# Altium footprint library Generic-Footprint-Library.PcbLib: 47 footprints (part 2 of 3)
Each footprint in its own frame and in the unit in brackets; x right, y up, seen from the top. Pads: shape width x height; smd on the part's side, far side on the other; paste and mask are expansions set on the pad; w line width, h text height; cw(c..) or ccw(c..) is an arc to the next point about the centre after c.
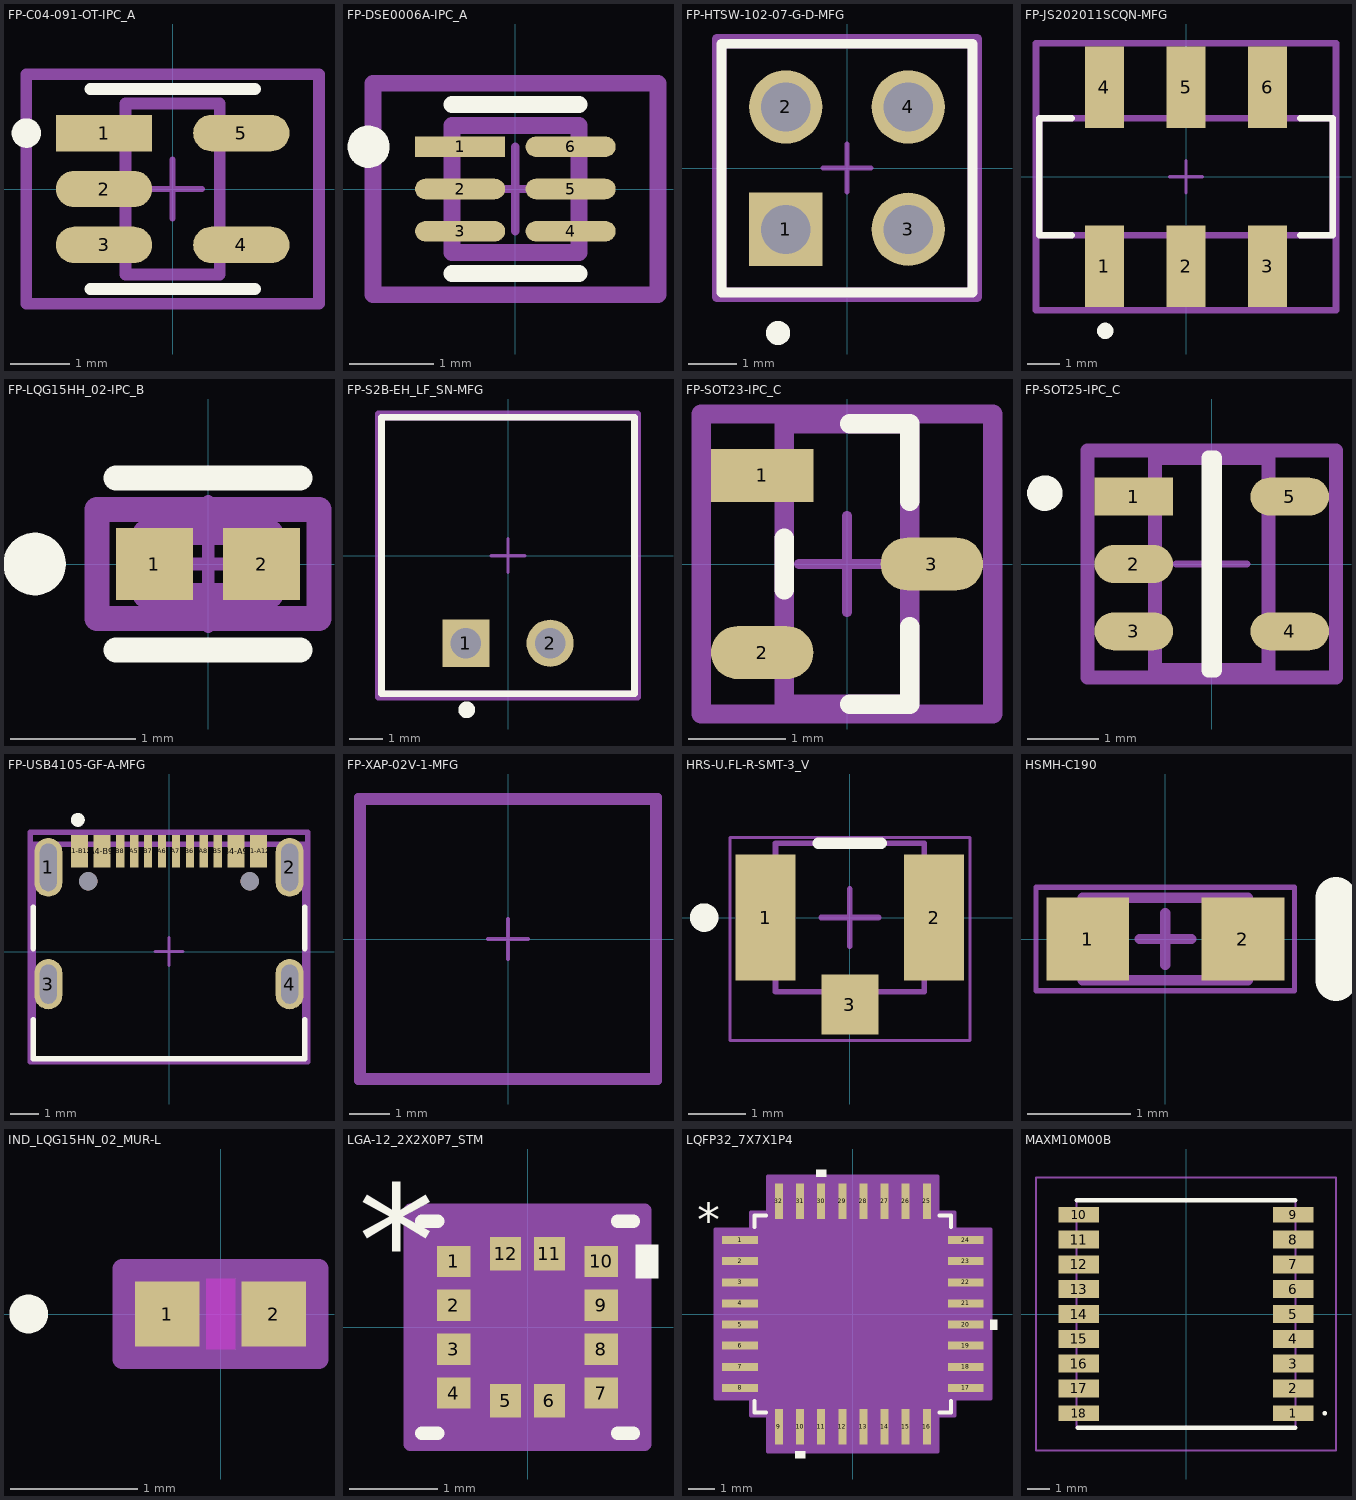
[diagram p1: the footprints below, top view; thin cyan lines are the x and y axes]

## FP-C04-091-OT-IPC_A [mil]
pads (5):
  rect 64.5x24.33 smd paste+0 mask+0: 1(-45.91,37.4)
  rrect100% 64.5x24.33 smd paste+0 mask+0: 2(-45.91,0) 3(-45.91,-37.4) 4(45.91,-37.4) 5(45.91,37.4)
Top Overlay:
  circle w9.84: c-97.85,37.4 r4.92
  lines w7.87: -55.12,-66.93 55.12,-66.93 ; -55.12,66.93 55.12,66.93
Top Assembly:
  lines w7.87: -97.85,-76.77 -97.85,76.77 97.85,76.77 97.85,-76.77 -97.85,-76.77
  text ".Designator" at 0,7.39 h39.37
Top 3D Body:
  lines w7.87: -31.5,-57.09 -31.5,57.09 31.5,57.09 31.5,-57.09 -31.5,-57.09
Top Courtyard:
  lines w7.87: -97.85,-76.77 -97.85,76.77 97.85,76.77 97.85,-76.77 -97.85,-76.77
Top Component Center:
  lines w3.94: -19.68,0 19.68,0 ; 0,-19.68 0,19.68

## FP-DSE0006A-IPC_A [mm]
pads (6):
  rect 1.065x0.242 smd paste+0 mask+0: 1(-0.654,0.5)
  rrect100% 1.065x0.242 smd paste+0 mask+0: 2(-0.654,0) 3(-0.654,-0.5) 4(0.654,-0.5) 5(0.654,0) 6(0.654,0.5)
Top Overlay:
  circle w0.25: c-1.736,0.5 r0.125
  lines w0.2: -0.75,-1 0.75,-1 ; -0.75,1 0.75,1
Top Assembly:
  lines w0.2: -1.686,-1.25 -1.686,1.25 1.686,1.25 1.686,-1.25 -1.686,-1.25
  text ".Designator" at 0,0.188 h1
Top 3D Body:
  lines w0.2: -0.75,-0.75 -0.75,0.75 0.75,0.75 0.75,-0.75 -0.75,-0.75
Top Courtyard:
  lines w0.2: -1.686,-1.25 -1.686,1.25 1.686,1.25 1.686,-1.25 -1.686,-1.25
Top Component Center:
  lines w0.1: -0.5,0 0.5,0 ; 0,-0.5 0,0.5
3D body "IC_Texas_Instruments_BQ29700DSET_eec.STEP": height 0.25, standoff 0, extent -1.686,-1.25 1.686,1.25

## FP-HTSW-102-07-G-D-MFG [mm]
pads (4):
  rect 1.52x1.52 hole 1.02 paste-2539.97 mask+0: 1(-1.27,-1.27)
  round 1.52 hole 1.02 paste-2539.97 mask+0: 2(-1.27,1.27) 3(1.27,-1.27) 4(1.27,1.27)
Top Overlay:
  circle w0.25: c-1.43,-3.42 r0.125
  lines w0.2: -2.603,-2.58 2.603,-2.58 2.603,2.58 -2.603,2.58 -2.603,-2.58
Top Assembly:
  lines w0.2: -2.703,-2.68 2.703,-2.68 2.703,2.68 -2.703,2.68 -2.703,-2.68
Top 3D Body:
  lines w0.2: -2.603,-2.58 2.603,-2.58 2.603,2.58 -2.603,2.58 -2.603,-2.58
Top Courtyard:
  lines w0.2: -2.703,-2.68 2.703,-2.68 2.703,2.68 -2.703,2.68 -2.703,-2.68
Top Component Center:
  lines w0.1: -0.5,0 0.5,0 ; 0,-0.5 0,0.5
3D body "Conn_Samtec_HTSW-102-07-G-D_eec.STEP": height 0.25, standoff 0, extent -2.703,-2.68 2.703,2.68

## FP-JS202011SCQN-MFG [mm]
pads (6):
  rect 1.2x2.5 smd paste+0 mask+0: 1(-2.5,-2.75) 2(0,-2.75) 3(2.5,-2.75) 4(-2.5,2.75) 5(0,2.75) 6(2.5,2.75)
Top Overlay:
  circle w0.25: c-2.476,-4.725 r0.125
  lines w0.2: -3.5,-1.8 -4.5,-1.8 -4.5,1.8 -3.5,1.8 ; 3.5,-1.8 4.5,-1.8 4.5,1.8 3.5,1.8
Top Assembly:
  lines w0.2: -4.6,-4.1 4.6,-4.1 4.6,4.1 -4.6,4.1 -4.6,-4.1
  text ".Designator" at 0,-0.001 h2
Top 3D Body:
  lines w0.2: -4.5,-1.8 4.5,-1.8 4.5,1.8 -4.5,1.8 -4.5,-1.8
Top Courtyard:
  lines w0.2: -4.6,-4.1 4.6,-4.1 4.6,4.1 -4.6,4.1 -4.6,-4.1
Top Component Center:
  lines w0.1: -0.5,0 0.5,0 ; 0,-0.5 0,0.5
3D body "Switch_C&K_Components_JS202011SCQN_eec.STEP": height 0.25, standoff 0, extent -4.6,-4.1 4.6,4.1

## FP-LQG15HH_02-IPC_B [mm]
pads (2):
  rect 0.615x0.572 smd paste+0 mask+0: 1(-0.429,0) 2(0.429,0)
Top Overlay:
  circle w0.25: c-1.386,0 r0.125
  lines w0.2: -0.736,-0.686 0.736,-0.686 ; -0.736,0.686 0.736,0.686
Top Assembly:
  lines w0.2: -0.886,-0.436 0.886,-0.436 0.886,0.436 -0.886,0.436 -0.886,-0.436
  text ".Designator" at 0,-0.001 h1
Top 3D Body:
  lines w0.2: -0.5,-0.25 0.5,-0.25 0.5,0.25 -0.5,0.25 -0.5,-0.25
Top Courtyard:
  lines w0.2: -0.886,-0.436 0.886,-0.436 0.886,0.436 -0.886,0.436 -0.886,-0.436
Top Component Center:
  lines w0.1: -0.5,0 0.5,0 ; 0,-0.5 0,0.5
3D body "Ind_Murata_LQG15HN39NJ02D_eec.STEP": height 0.25, standoff 0, extent -0.886,-0.436 0.886,0.436

## FP-S2B-EH_LF_SN-MFG [mm]
pads (2):
  rect 1.4x1.4 hole 0.9 paste-2539.97 mask+0: 1(-1.25,-2.6)
  round 1.4 hole 0.9 paste-2539.97 mask+0: 2(1.25,-2.6)
Top Overlay:
  circle w0.25: c-1.225,-4.575 r0.125
  lines w0.2: -3.75,-4.1 3.75,-4.1 3.75,4.1 -3.75,4.1 -3.75,-4.1
Top Assembly:
  lines w0.2: -3.85,-4.2 3.85,-4.2 3.85,4.2 -3.85,4.2 -3.85,-4.2
  text ".Designator" at 0,0.188 h1
Top 3D Body:
  lines w0.2: -3.75,-4.1 3.75,-4.1 3.75,4.1 -3.75,4.1 -3.75,-4.1
Top Courtyard:
  lines w0.2: -3.85,-4.2 3.85,-4.2 3.85,4.2 -3.85,4.2 -3.85,-4.2
Top Component Center:
  lines w0.1: -0.5,0 0.5,0 ; 0,-0.5 0,0.5
3D body "Conn_JST_S2B-EH_LF_SN_eec.STEP": height 0.25, standoff 0, extent -3.85,-4.2 3.85,4.2

## FP-SOT23-IPC_C [mm]
pads (3):
  rect 1.059x0.547 smd paste+0 mask+0: 1(-0.877,0.915)
  rrect100% 1.059x0.547 smd paste+0 mask+0: 2(-0.877,-0.915) 3(0.877,0)
Top Overlay:
  lines w0.2: -0.65,-0.267 -0.65,0.267 ; 0.028,-1.45 0.65,-1.45 0.65,-0.648 ; 0.028,1.45 0.65,1.45 0.65,0.648
Top Assembly:
  lines w0.2: -1.506,-1.55 1.506,-1.55 1.506,1.55 -1.506,1.55 -1.506,-1.55
  text ".Designator" at 0,-0.001 h1
Top 3D Body:
  lines w0.2: -0.65,-1.45 0.65,-1.45 0.65,1.45 -0.65,1.45 -0.65,-1.45
Top Courtyard:
  lines w0.2: -1.506,-1.55 1.506,-1.55 1.506,1.55 -1.506,1.55 -1.506,-1.55
Top Component Center:
  lines w0.1: -0.5,0 0.5,0 ; 0,-0.5 0,0.5
3D body "Diode_Diodes_Inc_BAT54-7-F_eec.STEP": height 0.25, standoff 0, extent -1.506,-1.55 1.506,1.55

## FP-SOT25-IPC_C [mm]
pads (5):
  rect 1.107x0.536 smd paste+0 mask+0: 1(-1.101,0.95)
  rrect100% 1.107x0.536 smd paste+0 mask+0: 2(-1.101,0) 3(-1.101,-0.95) 4(1.101,-0.95) 5(1.101,0.95)
Top Overlay:
  circle w0.25: c-2.354,1 r0.125
  lines w0.2: -0.047,-1.5 -0.047,1.5 0.047,1.5 0.047,-1.5 -0.047,-1.5
Top Assembly:
  lines w0.2: -1.754,-1.6 -1.754,1.6 1.754,1.6 1.754,-1.6 -1.754,-1.6
  text ".Designator" at 0,0.188 h1
Top 3D Body:
  lines w0.2: -0.8,-1.5 -0.8,1.5 0.8,1.5 0.8,-1.5 -0.8,-1.5
Top Courtyard:
  lines w0.2: -1.754,-1.6 -1.754,1.6 1.754,1.6 1.754,-1.6 -1.754,-1.6
Top Component Center:
  lines w0.1: -0.5,0 0.5,0 ; 0,-0.5 0,0.5
3D body "IC_Diodes_Inc_AP2127K-3_3TRG1_eec.STEP": height 0.25, standoff 0, extent -1.754,-1.6 1.754,1.6

## FP-USB4105-GF-A-MFG [mm]
pads (18):
  rrect100% 1x2.1 hole 1.7 slot 0.6 at 0 deg paste-2539.97 mask+0: 1(-4.32,3.015) 2(4.32,3.015)
  rrect100% 1x1.8 hole 1.4 slot 0.6 at 0 deg paste-2539.97 mask+0: 3(-4.32,-1.165) 4(4.32,-1.165)
  rect 0.6x1.15 smd paste+0 mask+0: A1-B12(-3.2,3.59) A4-B9(-2.4,3.59) B1-A12(3.2,3.59) B4-A9(2.4,3.59)
  rect 0.3x1.15 smd paste+0 mask+0: A5(-1.25,3.59) A6(-0.25,3.59) A7(0.25,3.59) A8(1.25,3.59) B5(1.75,3.59) B6(0.75,3.59) B7(-0.75,3.59) B8(-1.75,3.59)
  round 0.65 hole 0.65 unplated paste-2539.97 mask+0: ""(-2.89,2.515) ""(2.89,2.515)
Top Overlay:
  circle w0.25: c-3.265,4.715 r0.125
  lines w0.2: -4.865,-2.44 -4.865,-3.84 4.865,-3.84 4.865,-2.44 ; -4.865,0.11 -4.865,1.59 ; 4.865,0.11 4.865,1.59
Top Assembly:
  lines w0.2: -4.965,-3.94 4.965,-3.94 4.965,4.265 -4.965,4.265 -4.965,-3.94
  text ".Designator" at 0,0.35 h1
Top 3D Body:
  lines w0.2: -4.865,-3.84 4.865,-3.84 4.865,3.84 -4.865,3.84 -4.865,-3.84
Top Courtyard:
  lines w0.2: -4.965,-3.94 4.965,-3.94 4.965,4.265 -4.965,4.265 -4.965,-3.94
Top Component Center:
  lines w0.1: -0.5,0 0.5,0 ; 0,-0.5 0,0.5
3D body "Conn_GCT_USB4105-GF-A_eec.STEP": height 0.25, standoff 0, extent -4.965,-3.94 4.965,4.265

## FP-XAP-02V-1-MFG [mm]
Top Assembly:
  lines w0.2: -3.75,-3.55 3.75,-3.55 3.75,3.55 -3.75,3.55 -3.75,-3.55
Top 3D Body:
  lines w0.2: -3.65,-3.45 3.65,-3.45 3.65,3.45 -3.65,3.45 -3.65,-3.45
Top Courtyard:
  lines w0.2: -3.75,-3.55 3.75,-3.55 3.75,3.55 -3.75,3.55 -3.75,-3.55
Top Component Center:
  lines w0.1: -0.5,0 0.5,0 ; 0,-0.5 0,0.5
3D body "Conn_JST_XAP-02V-1_eec.STEP": height 0.25, standoff 0, extent -3.75,-3.55 3.75,3.55

## HRS-U.FL-R-SMT-3_V [mm] "SMT, 3-Leads, Body 2.6x2.6mm"
height 1.25
pads (3):
  rect 1.05x2.2 smd: 1(-1.475,0) 2(1.475,0)
  rect 1x1.05 smd: 3(0,-1.525)
Top Overlay:
  circle w0.25: c-2.55,0 r0.125
  lines w0.2: -0.55,1.3 0.55,1.3
Mechanical 13:
  lines w0.1: -1.3,-1.3 1.3,-1.3 1.3,1.3 -1.3,1.3 -1.3,-1.3
Mechanical 15:
  lines w0.05: -2.1,-2.15 2.1,-2.15 2.1,1.4 -2.1,1.4 -2.1,-2.15
  lines w0.1: -0.5,0 0.5,0 ; 0,-0.5 0,0.5
3D body: height 0.35, standoff 0, extent -1.3,-1.3 1.3,1.3
3D body: height 1.25, standoff 0, extent -1,-1 1,1

## HSMH-C190 [mm] "SMD, 2-Leads, Body 1.6x0.8mm, Height 0.9mm"
height 0.9
pads (2):
  rect 0.8x0.8 smd: 1(-0.75,0) 2(0.75,0)
Top Overlay:
  lines w0.4: 1.65,-0.4 1.65,0.4
Mechanical 13:
  lines w0.1: -0.8,-0.4 -0.8,0.4 0.8,0.4 0.8,-0.4 -0.8,-0.4
Mechanical 15:
  lines w0.05: -1.25,-0.5 1.25,-0.5 1.25,0.5 -1.25,0.5 -1.25,-0.5
  lines w0.1: -0.25,0 0.25,0 ; 0,-0.25 0,0.25
3D body: height 0.9, standoff 0.4, extent -0.55,-0.4 0.55,0.4
3D body: height 0.4, standoff 0, extent -0.8,-0.4 0.8,0.4

## IND_LQG15HN_02_MUR-L [mil]
pads (2):
  rect 20x20 smd paste+0 mask+0: 1(-16.5,0) 2(16.5,0)
Top Layer keep-out:
  region: -4.5,-9 -4.5,9 4.5,9 4.5,-9
Top Overlay:
  circle w6: c-59.5,0 r3
Keep-Out Layer:
  region: -4.5,-11 -4.5,11 4.5,11 4.5,-11
Mechanical 15:
  region: 30.5,-14 -30.5,-14 -30.5,14 30.5,14
  lines w6: -30.5,-14 30.5,-14 30.5,14 -30.5,14 -30.5,-14
3D body "IND_LQG15HN_02_MUR.step": height 20, standoff 0, extent -20.51,-10.98 20.51,10.98

## LGA-12_2X2X0P7_STM [mil]
pads (12):
  rect 15x14 smd paste+0 mask+1.18: 1(-33,29.53) 2(-33,9.84) 3(-33,-9.84) 4(-33,-29.53) 7(33,-29.53) 8(33,-9.84) 9(33,9.84) 10(33,29.53)
  rect 14x15 smd paste+0 mask+1.18: 5(-9.84,-33) 6(9.84,-33) 11(9.84,33) 12(-9.84,33)
Top Overlay:
  region: 48.5,37.03 58.5,37.03 58.5,22.03 48.5,22.03
  lines w6: -47.5,-47.5 -40.32,-47.5 ; -47.5,47.5 -40.32,47.5 ; 40.32,-47.5 47.5,-47.5 ; 40.32,47.5 47.5,47.5
  text "*" at -76,14.37 h50
Mechanical 13:
  lines w1: -42.5,-7.5 7.5,42.5 ; -42.5,-42.5 42.5,-42.5 42.5,42.5 -42.5,42.5 -42.5,-42.5 ; -42.5,-34.53 -42.5,-24.53 -38.5,-24.53 -38.5,-34.53 -42.5,-34.53 ; -42.5,-14.84 -42.5,-4.84 -38.5,-4.84 -38.5,-14.84 -42.5,-14.84 ; -42.5,4.84 -42.5,14.84 -38.5,14.84 -38.5,4.84 -42.5,4.84 ; -42.5,24.53 -42.5,34.53 -38.5,34.53 -38.5,24.53 -42.5,24.53 ; -14.84,-42.5 -4.84,-42.5 -4.84,-38.5 -14.84,-38.5 -14.84,-42.5 ; -14.84,38.5 -4.84,38.5 -4.84,42.5 -14.84,42.5 -14.84,38.5 ; 4.84,-42.5 14.84,-42.5 14.84,-38.5 4.84,-38.5 4.84,-42.5 ; 4.84,38.5 14.84,38.5 14.84,42.5 4.84,42.5 4.84,38.5 ; 38.5,-34.53 42.5,-34.53 42.5,-24.53 38.5,-24.53 38.5,-34.53 ; 38.5,-14.84 42.5,-14.84 42.5,-4.84 38.5,-4.84 38.5,-14.84 ; 38.5,4.84 42.5,4.84 42.5,14.84 38.5,14.84 38.5,4.84 ; 38.5,24.53 42.5,24.53 42.5,34.53 38.5,34.53 38.5,24.53
  text "*" at -40,14.37 h50
Mechanical 15:
  region: -24.84,-52.5 -52.5,-52.5 -52.5,-44.53 -52.5,44.53 -52.5,52.5 -24.84,52.5 24.84,52.5 52.5,52.5 52.5,44.53 52.5,-44.53 52.5,-52.5 24.84,-52.5
  lines w6: -52.5,-52.5 -52.5,-44.53 -52.5,44.53 -52.5,52.5 -24.84,52.5 24.84,52.5 52.5,52.5 52.5,44.53 52.5,-44.53 52.5,-52.5 24.84,-52.5 -24.84,-52.5 -52.5,-52.5
3D body "LGA-12_2X2X0P7_STM.step": height 28.11, standoff 0, extent -42.52,-42.52 42.52,42.52

## LQFP32_7X7X1P4 [mm]
pads (32):
  rect 1.353x0.304 smd paste+0 mask+0: 1(-4.271,2.8) 2(-4.271,2) 3(-4.271,1.2) 4(-4.271,0.4) 5(-4.271,-0.4) 6(-4.271,-1.2) 7(-4.271,-2) 8(-4.271,-2.8) 17(4.271,-2.8) 18(4.271,-2) 19(4.271,-1.2) 20(4.271,-0.4) 21(4.271,0.4) 22(4.271,1.2) 23(4.271,2) 24(4.271,2.8)
  rect 0.304x1.353 smd paste+0 mask+0: 9(-2.8,-4.271) 10(-2,-4.271) 11(-1.2,-4.271) 12(-0.4,-4.271) 13(0.4,-4.271) 14(1.2,-4.271) 15(2,-4.271) 16(2.8,-4.271) 25(2.8,4.271) 26(2,4.271) 27(1.2,4.271) 28(0.4,4.271) 29(-0.4,4.271) 30(-1.2,4.271) 31(-2,4.271) 32(-2.8,4.271)
Top Overlay:
  region: -1.01,5.201 -1.391,5.201 -1.391,5.455 -1.01,5.455
  region: 5.201,-0.209 5.455,-0.209 5.455,-0.59 5.201,-0.59
  region: -1.81,-5.201 -2.191,-5.201 -2.191,-5.455 -1.81,-5.455
  lines w0.152: -3.721,-3.285 -3.721,-3.721 -3.285,-3.721 ; -3.721,3.285 -3.721,3.721 -3.285,3.721 ; 3.285,-3.721 3.721,-3.721 3.721,-3.285 ; 3.285,3.721 3.721,3.721 3.721,3.285
  text "*" at -5.9,2.946 h1.27
Mechanical 13:
  lines w0.025: -3.594,2.324 -2.324,3.594 ; -4.597,-2.927 -3.594,-2.927 -3.594,-2.673 -4.597,-2.673 -4.597,-2.927 ; -4.597,-2.127 -3.594,-2.127 -3.594,-1.873 -4.597,-1.873 -4.597,-2.127 ; -4.597,-1.327 -3.594,-1.327 -3.594,-1.073 -4.597,-1.073 -4.597,-1.327 ; -4.597,-0.527 -3.594,-0.527 -3.594,-0.273 -4.597,-0.273 -4.597,-0.527 ; -4.597,0.273 -3.594,0.273 -3.594,0.527 -4.597,0.527 -4.597,0.273 ; -4.597,1.073 -3.594,1.073 -3.594,1.327 -4.597,1.327 -4.597,1.073 ; -4.597,1.873 -3.594,1.873 -3.594,2.127 -4.597,2.127 -4.597,1.873 ; -4.597,2.673 -3.594,2.673 -3.594,2.927 -4.597,2.927 -4.597,2.673 ; -3.594,-3.594 3.594,-3.594 3.594,3.594 -3.594,3.594 -3.594,-3.594 ; -2.927,-4.597 -2.673,-4.597 -2.673,-3.594 -2.927,-3.594 -2.927,-4.597 ; -2.927,3.594 -2.927,4.597 -2.673,4.597 -2.673,3.594 -2.927,3.594 ; -2.127,-4.597 -1.873,-4.597 -1.873,-3.594 -2.127,-3.594 -2.127,-4.597 ; -2.127,3.594 -2.127,4.597 -1.873,4.597 -1.873,3.594 -2.127,3.594 ; -1.327,-4.597 -1.073,-4.597 -1.073,-3.594 -1.327,-3.594 -1.327,-4.597 ; -1.327,3.594 -1.327,4.597 -1.073,4.597 -1.073,3.594 -1.327,3.594 ; -0.527,-4.597 -0.273,-4.597 -0.273,-3.594 -0.527,-3.594 -0.527,-4.597 ; -0.527,3.594 -0.527,4.597 -0.273,4.597 -0.273,3.594 -0.527,3.594 ; 0.273,-4.597 0.527,-4.597 0.527,-3.594 0.273,-3.594 0.273,-4.597 ; 0.273,3.594 0.273,4.597 0.527,4.597 0.527,3.594 0.273,3.594 ; 1.073,-4.597 1.327,-4.597 1.327,-3.594 1.073,-3.594 1.073,-4.597 ; 1.073,3.594 1.073,4.597 1.327,4.597 1.327,3.594 1.073,3.594 ; 1.873,-4.597 2.127,-4.597 2.127,-3.594 1.873,-3.594 1.873,-4.597 ; 1.873,3.594 1.873,4.597 2.127,4.597 2.127,3.594 1.873,3.594 ; 2.673,-4.597 2.927,-4.597 2.927,-3.594 2.673,-3.594 2.673,-4.597 ; 2.673,3.594 2.673,4.597 2.927,4.597 2.927,3.594 2.673,3.594 ; 3.594,-2.927 4.597,-2.927 4.597,-2.673 3.594,-2.673 3.594,-2.927 ; 3.594,-2.127 4.597,-2.127 4.597,-1.873 3.594,-1.873 3.594,-2.127 ; 3.594,-1.327 4.597,-1.327 4.597,-1.073 3.594,-1.073 3.594,-1.327 ; 3.594,-0.527 4.597,-0.527 4.597,-0.273 3.594,-0.273 3.594,-0.527 ; 3.594,0.273 4.597,0.273 4.597,0.527 3.594,0.527 3.594,0.273 ; 3.594,1.073 4.597,1.073 4.597,1.327 3.594,1.327 3.594,1.073 ; 3.594,1.873 4.597,1.873 4.597,2.127 3.594,2.127 3.594,1.873 ; 3.594,2.673 4.597,2.673 4.597,2.927 3.594,2.927 3.594,2.673
  text "*" at -3.531,2.565 h1.27
Mechanical 15:
  region: -3.206,-3.848 -3.848,-3.848 -3.848,-3.206 -5.201,-3.206 -5.201,3.206 -3.848,3.206 -3.848,3.848 -3.206,3.848 -3.206,5.201 3.206,5.201 3.206,3.848 3.848,3.848 3.848,3.206 5.201,3.206 5.201,-3.206 3.848,-3.206 3.848,-3.848 3.206,-3.848 3.206,-5.201 -3.206,-5.201
  lines w0.152: -5.201,-3.206 -5.201,3.206 -3.848,3.206 -3.848,3.848 -3.206,3.848 -3.206,5.201 3.206,5.201 3.206,3.848 3.848,3.848 3.848,3.206 5.201,3.206 5.201,-3.206 3.848,-3.206 3.848,-3.848 3.206,-3.848 3.206,-5.201 -3.206,-5.201 -3.206,-3.848 -3.848,-3.848 -3.848,-3.206 -5.201,-3.206
3D body "LQFP32_7X7X1P4.step": height 1.6, standoff 0, extent -4.597,-4.597 4.597,4.597

## MAXM10M00B [mm]
pads (18):
  rect 1.8x0.7 smd: 1(4.75,-4.4) 9(4.75,4.4) 10(-4.75,4.4) 18(-4.75,-4.4)
  rect 1.8x0.8 smd: 2(4.75,-3.3) 3(4.75,-2.2) 4(4.75,-1.1) 5(4.75,0) 6(4.75,1.1) 7(4.75,2.2) 8(4.75,3.3) 11(-4.75,3.3) 12(-4.75,2.2) 13(-4.75,1.1) 14(-4.75,0) 15(-4.75,-1.1) 16(-4.75,-2.2) 17(-4.75,-3.3)
Top Overlay:
  lines w0.1: 6.1,-4.4 ccw(c6.15,-4.4) 6.2,-4.4 ; 6.1,-4.4 ccw(c6.15,-4.4) 6.2,-4.4 ; 6.1,-4.4 cw(c6.15,-4.4) 6.2,-4.4
  lines w0.2: -4.85,5.05 4.85,5.05 ; -4.8,-5.05 4.85,-5.05
Mechanical 15:
  lines w0.1: -4.85,-5.05 -4.85,5.05 4.85,5.05 4.85,-5.05 -4.85,-5.05
Mechanical 20:
  lines w0.1: -6.65,-6.05 -6.65,6.05 6.65,6.05 6.65,-6.05 -6.65,-6.05
3D body "MAX-M10M-00B.stp": height 2.5, standoff 0, extent -4.85,-5.05 4.85,5.05